# Altium footprint library PcbLib1.PcbLib: 2 footprints
Each footprint in its own frame and in the unit in brackets; x right, y up, seen from the top. Pads: shape width x height; smd on the part's side, far side on the other; paste and mask are expansions set on the pad; w line width, h text height; cw(c..) or ccw(c..) is an arc to the next point about the centre after c.
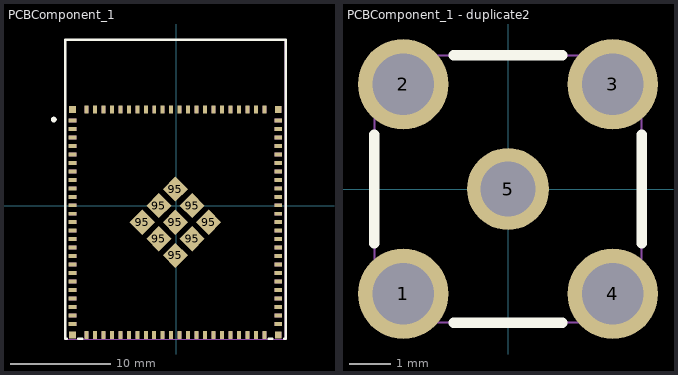
[diagram p0: the footprints below, top view; thin cyan lines are the x and y axes]

## PCBComponent_1 [mil]
pads (107):
  rect 31.5x15.7 smd paste+0 mask+2: 1(-407.79,335.99) 2(-407.79,302.49) 3(-407.79,269.09) 4(-407.79,235.59) 5(-407.79,202.09) 6(-407.79,168.69) 7(-407.79,135.19) 8(-407.79,101.69) 9(-407.79,68.29) 10(-407.79,34.79) 11(-407.79,1.39) 12(-407.79,-32.11) 13(-407.79,-65.61) 14(-407.79,-99.01) 15(-407.79,-132.51) 16(-407.79,-166.01) 17(-407.79,-199.41) 18(-407.79,-232.91) 19(-407.79,-266.41) 20(-407.79,-299.81) 21(-407.79,-333.31) 22(-407.79,-366.81) 23(-407.79,-400.21) 24(-407.79,-433.71) 25(-407.79,-467.11) 48(403.21,-467.11) 49(403.21,-433.71) 50(403.21,-400.21) 51(403.21,-366.71) 52(403.21,-333.31) 53(403.21,-299.81) 54(403.21,-266.41) 55(403.21,-232.91) 56(403.21,-199.41) 57(403.21,-166.01) 58(403.21,-132.51) 59(403.21,-99.01) 60(403.21,-65.61) 61(403.21,-32.11) 62(403.21,1.39) 63(403.21,34.79) 64(403.21,68.29) 65(403.21,101.79) 66(403.21,135.19) 67(403.21,168.69) 68(403.21,202.09) 69(403.21,235.59) 70(403.21,269.09) 71(403.21,302.49) 72(403.21,335.99)
  rect 15.7x31.5 smd paste+0 mask+2: 26(-353.69,-510.41) 27(-320.19,-510.41) 28(-286.69,-510.41) 29(-253.29,-510.41) 30(-219.79,-510.41) 31(-186.29,-510.41) 32(-152.89,-510.41) 33(-119.39,-510.41) 34(-85.99,-510.41) 35(-52.49,-510.41) 36(-18.99,-510.41) 37(14.41,-510.41) 38(47.91,-510.41) 39(81.41,-510.41) 40(114.81,-510.41) 41(148.31,-510.41) 42(181.81,-510.41) 43(215.21,-510.41) 44(248.71,-510.41) 45(282.21,-510.41) 46(315.61,-510.41) 47(349.11,-510.41) 73(349.11,379.29) 74(315.61,379.29) 75(282.21,379.29) 76(248.71,379.29) 77(215.21,379.29) 78(181.81,379.29) 79(148.31,379.29) 80(114.81,379.29) 81(81.41,379.29) 82(47.91,379.29) 83(14.41,379.29) 84(-18.99,379.29) 85(-52.49,379.29) 86(-85.89,379.29) 87(-119.39,379.29) 88(-152.89,379.29) 89(-186.29,379.29) 90(-219.79,379.29) 91(-253.29,379.29) 92(-286.69,379.29) 93(-320.19,379.29) 94(-353.69,379.29)
  rect 70.9x70.9 smd rot 135 paste+0 mask+2: 95(-133.09,-65.61) 95(-67.69,-131.01) 95(-67.69,-0.11) 95(-2.29,-196.41) 95(-2.29,-65.61) 95(-2.29,65.29) 95(63.11,-131.01) 95(63.11,-0.11) 95(128.61,-65.61)
  rect 27.6x27.6 smd paste+0 mask+2: 96(-407.79,-510.41) 97(403.21,-510.41) 98(403.21,379.29) 99(-407.79,379.29)
Top Overlay:
  lines w10: -430.59,-525.61 -437.29,-525.61 -437.29,654.39 432.71,654.39 432.71,-525.61 426.01,-525.61 ; -384.99,-525.61 -370.59,-525.61 ; 366.11,-525.61 380.41,-525.61
  lines w11.8: -488.19,339.39 -487.79,341.39 -486.79,343.19 -485.19,344.49 -483.29,345.19 -481.29,345.19 -479.29,344.49 -477.79,343.19 -476.69,341.39 -476.39,339.39 -476.69,337.39 -477.79,335.59 -479.29,334.29 -481.29,333.59 -483.29,333.59 -485.19,334.29 -486.79,335.59 -487.79,337.39 -488.19,339.39
Mechanical 7:
  lines w2: -435.39,-526.21 430.81,-526.21 430.81,654.89 -435.39,654.89 -435.39,-526.21
Mechanical 8:
  region: -432.99,654.89 -433.39,653.59 -434.39,652.79 -435.69,652.59 -436.89,653.09 -437.59,654.19 -437.59,655.59 -436.89,656.69 -435.69,657.19 -434.39,656.99 -433.39,656.19
Mechanical 9:
  drawing of 107 lines, arcs and shapes, not listed

## PCBComponent_1 - duplicate2 [mm]
pads (5):
  round 2.2 hole 1.501: 1(-2.55,-2.55) 2(-2.55,2.55) 3(2.55,2.55) 4(2.55,-2.55)
  round 1.999 hole 1.349: 5(0,0)
Top Overlay:
  lines w0.254: -3.251,-1.316 -3.251,1.316 ; -1.316,-3.251 1.316,-3.251 ; -1.316,3.251 1.316,3.251 ; 3.251,-1.316 3.251,1.316
Mechanical 7:
  lines w0.051: -3.251,-3.251 -3.251,3.251 3.251,3.251 3.251,-3.251 -3.251,-3.251
Mechanical 8:
  region: -3.19,-3.251 -3.2,-3.282 -3.226,-3.305 -3.259,-3.31 -3.289,-3.294 -3.307,-3.266 -3.307,-3.233 -3.289,-3.205 -3.259,-3.19 -3.226,-3.195 -3.2,-3.218
Mechanical 9:
  region: -3,-2.101 -2.101,-2.101 -2.101,-3 -3,-3
  region: -3,3 -2.101,3 -2.101,2.101 -3,2.101
  region: 2.101,3 3,3 3,2.101 2.101,2.101
  region: 2.101,-2.101 3,-2.101 3,-3 2.101,-3
  region: 0.424,0 0.414,-0.091 0.386,-0.178 0.338,-0.257 0.274,-0.323 0.198,-0.376 0.114,-0.409 0.023,-0.424 -0.069,-0.419 -0.157,-0.394 -0.239,-0.351 -0.31,-0.292 -0.363,-0.218 -0.404,-0.135 -0.422,-0.046 -0.422,0.046 -0.404,0.137 -0.363,0.218 -0.31,0.292 -0.239,0.353 -0.157,0.396 -0.069,0.419 0.023,0.424 0.114,0.409 0.198,0.376 0.274,0.325 0.338,0.257 0.386,0.178 0.414,0.091